# Altium schematic symbol library SMBJ15CA-TR.SchLib: 1 symbol
Pins are listed as number, name and electrical type; pins without a type are passive.

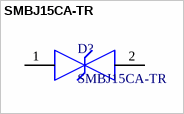
[diagram p0: symbol SMBJ15CA-TR]

## SMBJ15CA-TR
designator D?
footprint FP-SMB-CA-MFG
pins: 1, 2